# Altium footprint library RT1052_EVK_Mini.PcbLib: 27 footprints (part 2 of 2)
Each footprint in its own frame and in the unit in brackets; x right, y up, seen from the top. Pads: shape width x height; smd on the part's side, far side on the other; paste and mask are expansions set on the pad; w line width, h text height; cw(c..) or ccw(c..) is an arc to the next point about the centre after c.
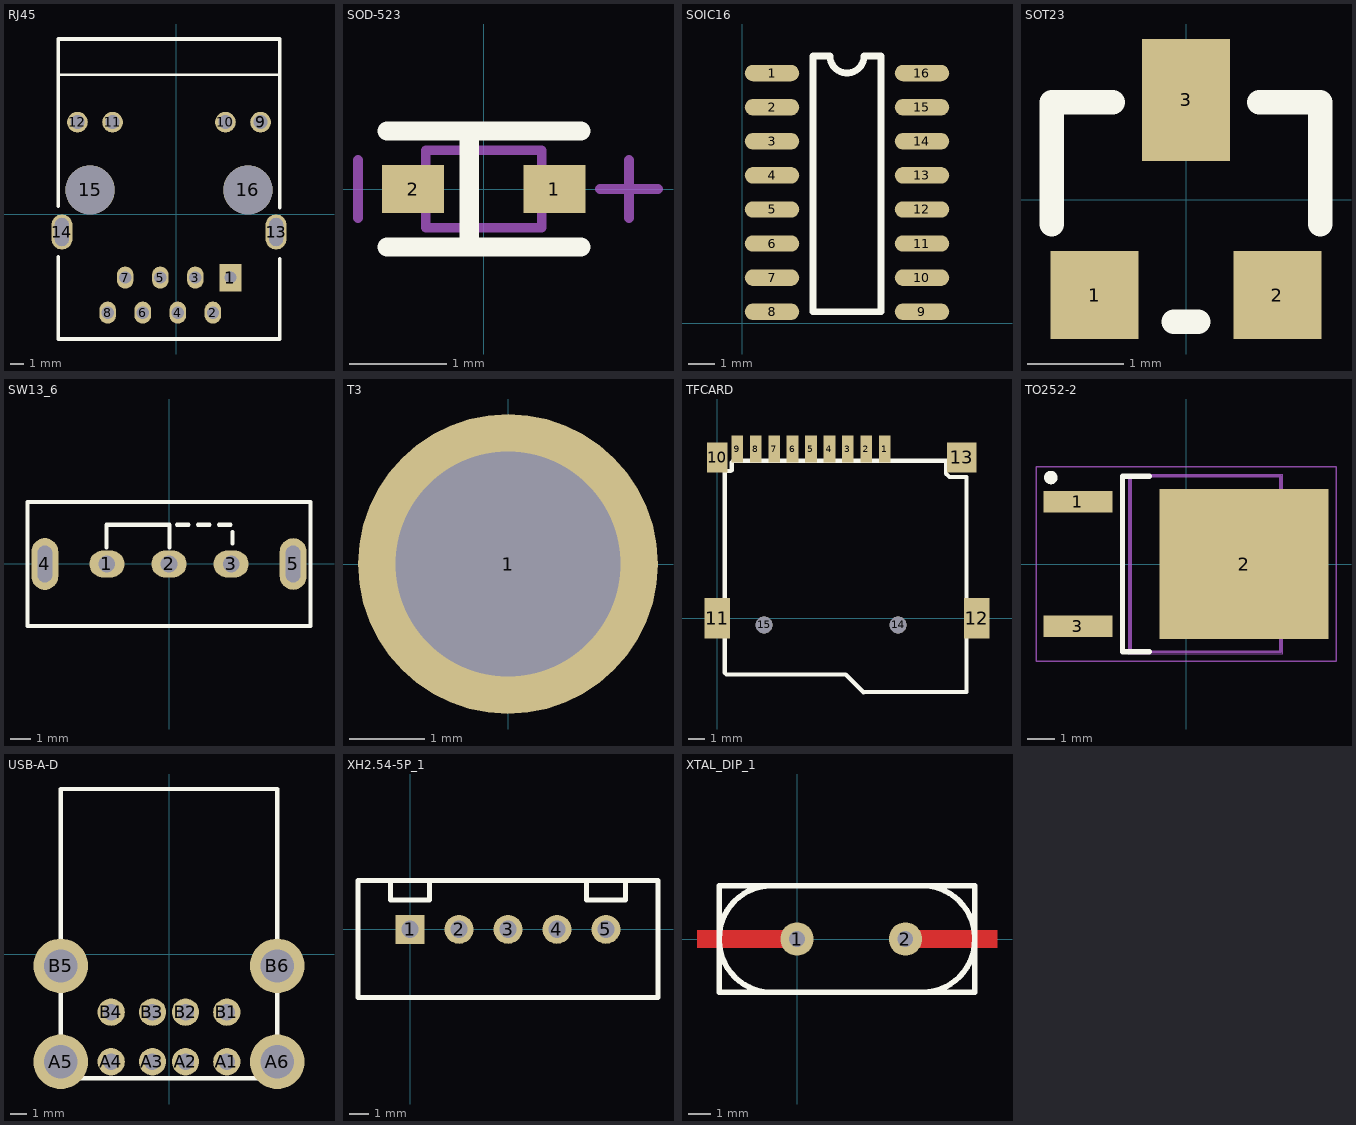
[diagram p1: the footprints below, top view; thin cyan lines are the x and y axes]

## RJ45 [mm]
pads (16):
  rect 1.6x2 hole 0.89: 1(3.942,-4.572)
  oval 1.2x1.6 hole 0.89: 2(2.672,-7.112) 3(1.402,-4.572) 4(0.132,-7.112) 5(-1.138,-4.572) 6(-2.408,-7.112) 7(-3.678,-4.572) 8(-4.948,-7.112)
  round 1.5 hole 1.02: 9(6.117,6.678) 10(3.577,6.678) 11(-4.593,6.678) 12(-7.133,6.678)
  oval 1.524x2.54 hole 1.016 slot 2.032 at 90 deg: 13(7.242,-1.272) 14(-8.258,-1.272)
  round 3.556 hole 3.556: 15(-6.223,1.778) 16(5.207,1.778)
Top Overlay:
  lines w0.2: -8.508,10.103 7.492,10.103
  lines w0.254: -8.508,-3.069 -8.508,-9.017 7.492,-9.017 7.492,-3.2 ; -8.508,0.575 -8.508,12.698 7.492,12.698 7.492,0.481

## SOD-523 [mm]
pads (2):
  rect 0.64x0.5 smd: 1(0.73,0) 2(-0.73,0)
Top Overlay:
  lines w0.2: -1,-0.6 1,-0.6 ; -1,0.6 1,0.6 ; -0.15,-0.575 -0.15,0.6
Mechanical 16:
  lines w0.1: -1.3,-0.3 -1.3,0.3 ; 1.2,0 1.8,0 ; 1.5,-0.3 1.5,0.3 ; -0.6,-0.4 -0.6,0.4 0.6,0.4 0.6,-0.4 -0.6,-0.4

## SOIC16 [mil]
pads (16):
  oval 80x24 smd: 1(44,367) 2(44,317) 3(44,267) 4(44,217) 5(44,167) 6(44,117) 7(44,67) 8(44,17) 9(264,17) 10(264,67) 11(264,117) 12(264,167) 13(264,217) 14(264,267) 15(264,317) 16(264,367)
Top Overlay:
  lines w10: 104,17 204,17 204,392 179,392 cw(c154,392) 129,392 104,392 104,17

## SOT23 [mil]
pads (3):
  rect 36x36 smd: 1(-37.5,-39) 2(37.5,-39)
  rect 36x50 smd: 3(0,41)
Top Overlay:
  lines w10: -55,-10 -55,40 -30,40 ; -5,-50 5,-50 ; 30,40 55,40 55,-10

## SW13_6 [mm]
pads (5):
  oval 1.7x1.3 hole 0.8: 1(-3,0) 2(0,0) 3(3,0)
  oval 1.3x2.5 hole 0.7 slot 1.778 at 90 deg: 4(-6,0) 5(6,0)
Top Overlay:
  lines w0.203: -3.023,0.8 -3.023,1.9 0.025,1.9 0.025,0.8 ; 0.381,1.9 0.94,1.9 ; 1.397,1.9 1.956,1.9 ; 2.413,1.9 2.972,1.9 ; 3.073,0.984 3.073,1.543 ; -6.833,-3 6.833,-3 6.833,3 -6.833,3 -6.833,-3

## T3 [mm]
pads (1):
  round 4 hole 3: 1(0,0)

## TFCARD [mm]
pads (15):
  rect 0.7x1.6 smd: 1(10,10.1) 2(8.9,10.1) 3(7.8,10.1) 4(6.7,10.1) 5(5.6,10.1) 6(4.5,10.1) 7(3.4,10.1) 8(2.3,10.1) 9(1.2,10.1)
  rect 1.2x1.778 smd: 10(0,9.6)
  rect 1.524x2.413 smd: 11(0,0) 12(15.5,0)
  rrect0% 1.778x1.778 smd: 13(14.6,9.6)
  round 1 hole 1: 14(10.8,-0.4) 15(2.8,-0.4)
Top Overlay:
  lines w0.254: 0.406,8.788 0.813,8.788 0.864,8.839 0.864,9.296 0.965,9.398 13.665,9.398 13.665,8.636 13.868,8.433 14.884,8.433 14.884,-4.4 8.738,-4.42 7.671,-3.353 0.559,-3.353 0.457,-3.251 0.457,8.738 0.406,8.788

## TO252-2 [mm]
height 2.4
pads (3):
  rect 2.55x0.8 smd: 1(-4,2.3) 3(-4,-2.3)
  rect 6.25x5.55 smd: 2(2.15,0)
Top Overlay:
  circle w0.25: c-5,3.2 r0.125
  lines w0.2: -1.35,-3.25 -2.35,-3.25 -2.35,3.25 -1.35,3.25
Top Paste:
  region: -0.25,-2.06 1.79,-2.06 1.79,-0.36 -0.25,-0.36
  region: 2.51,-2.06 4.55,-2.06 4.55,-0.36 2.51,-0.36
  region: -0.25,0.36 1.79,0.36 1.79,2.06 -0.25,2.06
  region: 2.51,0.36 4.55,0.36 4.55,2.06 2.51,2.06
Mechanical 1:
  lines w0.1: 3.5,-2.668 3.946,-2.668 4.85,-1.666 4.85,1.666 3.946,2.668 3.5,2.668 ; -2.05,-3.25 3.5,-3.25 3.5,3.25 -2.05,3.25 -2.05,-3.25
  text "U1" at -0.518,-0.45 h0.75
Mechanical 16:
  circle w0.05: c0,0 r0.35
  lines w0.001: -2.125,-3.325 3.575,-3.325 3.575,3.325 -2.125,3.325 -2.125,-3.325
  lines w0.05: -0.5,0 0.5,0 ; 0,-0.5 0,0.5 ; -5.55,-3.6 5.55,-3.6 5.55,3.6 -5.55,3.6 -5.55,-3.6

## USB-A-D [mm]
pads (12):
  round 1.651 hole 1: A1(3.5,-6.5) A2(1,-6.5) A3(-1,-6.5) A4(-3.5,-6.5) B1(3.5,-3.5) B2(1,-3.5) B3(-1,-3.5) B4(-3.5,-3.5)
  round 3.3 hole 2: A5(-6.55,-6.5) A6(6.55,-6.5) B5(-6.55,-0.7) B6(6.55,-0.7)
Top Overlay:
  lines w0.254: -6.55,-7.5 6.55,-7.5 6.55,10 -6.55,10 -6.55,-7.5

## XH2.54-5P_1 [mm]
pads (5):
  rect 1.5x1.5 hole 0.9: 1(0,0)
  round 1.5 hole 0.9: 2(2.54,0) 3(5.08,0) 4(7.62,0) 5(10.16,0)
Top Overlay:
  lines w0.254: -2.7,-3.54 -2.7,2.54 12.86,2.54 12.86,-3.54 -2.7,-3.54 ; -1.016,1.524 -1.016,2.54 1.016,2.54 1.016,1.524 -1.016,1.524 ; 9.144,1.524 9.144,2.54 11.176,2.54 11.176,1.524 9.144,1.524

## XTAL_DIP_1 [mm]
pads (2):
  round 1.5 hole 0.7: 1(0,0) 2(4.88,0)
Top Layer:
  region: -4.5,0.4 -0.5,0.4 -0.5,-0.4 -4.5,-0.4
  region: 9,-0.4 5.4,-0.4 5.4,0.4 9,0.4
Top Overlay:
  lines w0.254: -3.5,-0.069 -3.5,0 ; -3.5,-0.068 ccw(c-1.135,-0.035) -1.102,-2.4 ; -3.5,0.002 cw(c-1.135,0.035) -1.168,2.4 ; 5.602,2.4 cw(c5.635,0.035) 8,0.068 ; 5.668,-2.4 ccw(c5.635,-0.035) 8,-0.002 ; 8,0 8,0.069 ; -3.5,-2.4 -3.5,2.4 8,2.4 8,-2.4 -3.5,-2.4
Top Paste:
  region: -4.5,0.4 -2.5,0.4 -2.5,-0.4 -4.5,-0.4
  region: 7,0.4 9,0.4 9,-0.4 7,-0.4
Top Solder:
  region: 7,0.4 9,0.4 9,-0.4 7,-0.4
  region: -4.5,0.4 -2.5,0.4 -2.5,-0.4 -4.5,-0.4